# EAGLE library part 472133020311 (library Wurth_Switch_WS-TOTV)
WS-TOTV Ø 6.35mm Panel Cut-Out Vertical Operation Toggle Switch Material Properties Actuator Material Copper Alloy Cover Material Stainless Steel Frame Material DAP Frame Flammability Rating UL94 V-0 Moveable Contact Material Copper Alloy Moveable Contact Plating Silver Stationary Contact Material Copper Alloy Stationary Contact Plating Silver Terminal Material Copper Alloy Terminal Plating Silver Electrical Properties IR 1 A VR 30 V (DC) Contact Resistance Initial 30 mΩ RISO 1000 MΩ Withstanding Voltage 500 V (AC) Mechanical Properties Electrical Life 50000 Steps Connection Type Opposite Side Connection General Information Operating Temperature -40 up to +85 °C <https://www.we-online.com/catalog/media/o718996v209%20family-totv-4721xx0x0xxx.jpg> Details see: www.we-online.com/components/products/WS-TOTV_635_CUT_OUT_VERT_OPERATION <https://www.we-online.com/en/components/products/WS-TOTV_635_CUT_OUT_VERT_OPERATION> Updated by Ella Wu 2022-11-11 2022(C) Würth Elektronik
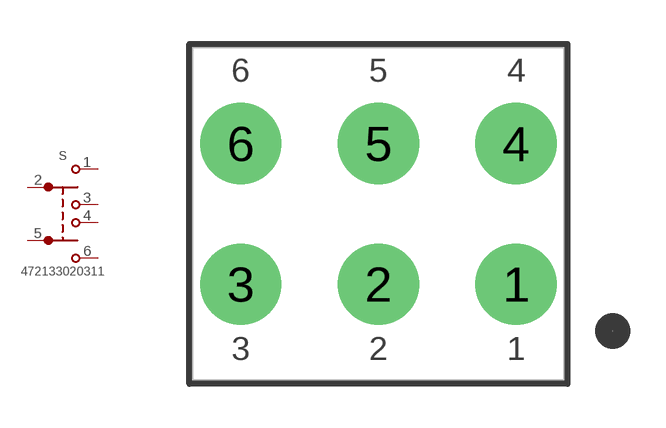
[diagram p2: symbol with the pads of 472133020311; footprint 472133020311]

Designator prefix S

## 472133020311 (ACTUATOR-LENGTH: 7.5mm; BUSHING-LENGTH: 7.1mm; DATASHEET-URL: https://www.we-online.com/redexpert/spec/472133020311?ae; MOUNT: THT; PART-NUMBER: 472133020311; SWITCHING-FUNCTION: ON-OFF-ON; VALUE: 472133020311)  [472133020311]
1  1  pas
2  2  pas
3  3  pas
4  4  pas
5  5  pas
6  6  pas

## Footprint 472133020311 (pad centres in mm)
WS-TOTV Ø 6.35mm Panel Cut-Out Vertical Operation Toggle Switch
drill 1.85: 1 4.7,-2.4; 2 0,-2.4; 3 -4.7,-2.4; 4 4.7,2.4; 5 0,2.4; 6 -4.7,2.4